# Altium footprint library NewBee_PcbLib.PcbLib: 4 footprints
Each footprint in its own frame and in the unit in brackets; x right, y up, seen from the top. Pads: shape width x height; smd on the part's side, far side on the other; paste and mask are expansions set on the pad; w line width, h text height; cw(c..) or ccw(c..) is an arc to the next point about the centre after c.
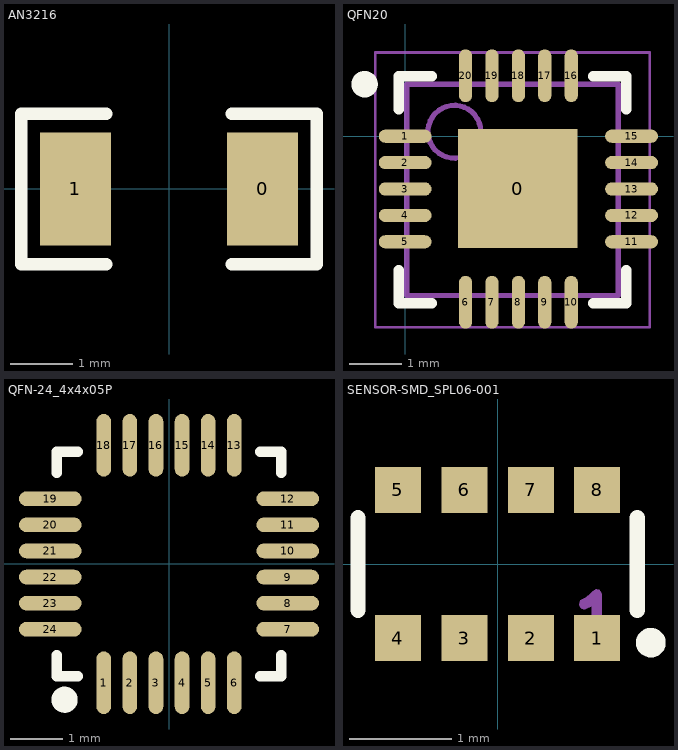
[diagram p0: the footprints below, top view; thin cyan lines are the x and y axes]

## AN3216 [mm]
pads (2):
  rect 1.13x1.8 smd: 0(1.49,0) 1(-1.49,0)
Top Overlay:
  lines w0.2: -1,-1.2 -2.355,-1.2 -2.355,1.2 -1,1.2 ; 1,-1.2 2.355,-1.2 2.355,1.2 1,1.2
3D body "C1808.STEP": height 0.88, standoff -0.02, extent -2.25,-1 2.25,1

## QFN20 [mm]
pads (21):
  rect 2.261x2.261 smd: 0(2.134,-0.991)
  oval 1x0.25 smd: 1(0,0) 2(0,-0.5) 3(0,-1) 4(0,-1.5) 5(0,-2) 11(4.286,-2) 12(4.286,-1.5) 13(4.286,-1) 14(4.286,-0.5) 15(4.286,0)
  oval 0.25x1 smd: 6(1.143,-3.143) 7(1.643,-3.143) 8(2.143,-3.143) 9(2.643,-3.143) 10(3.143,-3.143) 16(3.143,1.143) 17(2.643,1.143) 18(2.143,1.143) 19(1.643,1.143) 20(1.143,1.143)
Top Overlay:
  circle w0.25: c-0.768,0.984 r0.125
  lines w0.2: -0.118,-2.541 -0.118,-3.166 0.507,-3.166 ; -0.118,0.509 -0.118,1.134 0.507,1.134 ; 3.557,-3.166 4.182,-3.166 4.182,-2.541 ; 3.557,1.134 4.182,1.134 4.182,0.509
Mechanical 13:
  circle w0.1: c0.932,0.084 r0.5
  lines w0.1: 0.032,-3.016 0.032,0.984 4.032,0.984 4.032,-3.016 0.032,-3.016
Mechanical 15:
  lines w0.05: -0.568,-3.616 -0.568,1.584 4.632,1.584 4.632,-3.616 -0.568,-3.616
  lines w0.1: 1.532,-1.016 2.532,-1.016 ; 2.032,-1.516 2.032,-0.516
3D body: height 0.9, standoff 0.01, extent 0.032,-3.016 4.032,0.984

## QFN-24_4x4x05P [mm]
height 1
pads (24):
  oval 0.28x1.2 smd mask+0.051: 1(-1.25,-2.273) 2(-0.75,-2.273) 3(-0.25,-2.273) 4(0.25,-2.273) 5(0.75,-2.273) 6(1.25,-2.273) 13(1.25,2.273) 14(0.75,2.273) 15(0.25,2.273) 16(-0.25,2.273) 17(-0.75,2.273) 18(-1.25,2.273)
  oval 1.2x0.28 smd mask+0.051: 7(2.273,-1.25) 8(2.273,-0.75) 9(2.273,-0.25) 10(2.273,0.25) 11(2.273,0.75) 12(2.273,1.25) 19(-2.273,1.25) 20(-2.273,0.75) 21(-2.273,0.25) 22(-2.273,-0.25) 23(-2.273,-0.75) 24(-2.273,-1.25)
Top Overlay:
  circle w0.25: c-2,-2.6 r0.125
  lines w0.2: -2.15,-1.75 -2.15,-2.15 -1.75,-2.15 ; -2.15,1.75 -2.15,2.15 -1.75,2.15 ; 1.75,-2.15 2.15,-2.15 2.15,-1.75 ; 1.75,2.15 2.15,2.15 2.15,1.75
3D body: height 0.9, standoff 0.01, extent -2,-2 2,2

## SENSOR-SMD_SPL06-001 [mm]
pads (8):
  rect 0.45x0.45 smd: 1(0.975,-0.725) 2(0.325,-0.725) 3(-0.325,-0.725) 4(-0.975,-0.725) 5(-0.975,0.725) 6(-0.325,0.725) 7(0.325,0.725) 8(0.975,0.725)
Top Overlay:
  circle w0.15: c1.5,-0.77 r0.07
  lines w0.15: -1.367,-0.451 -1.367,0.451 ; 1.367,-0.451 1.367,0.451
Mechanical 15:
  region: 0.8,-0.395 0.8,-0.405 0.808,-0.423 0.822,-0.437 0.84,-0.445 0.85,-0.445 0.86,-0.445 0.92,-0.415 0.91,-0.795 0.91,-0.803 0.916,-0.818 0.927,-0.829 0.942,-0.835 0.95,-0.835 0.97,-0.835 0.98,-0.835 0.998,-0.827 1.012,-0.813 1.02,-0.795 1.02,-0.785 1.02,-0.305 1.02,-0.293 1.011,-0.271 0.994,-0.254 0.972,-0.245 0.96,-0.245 0.93,-0.265 0.91,-0.285 0.87,-0.325 0.81,-0.355
3D body "SENSOR-SMD_SPL06-001.STEP": height 0.96, standoff 0, extent -1.249,-1 1.249,0.999